# EAGLE library part TRACE_CONNECTOR (library WSNlib)
Trace Connector for Cortex-M3
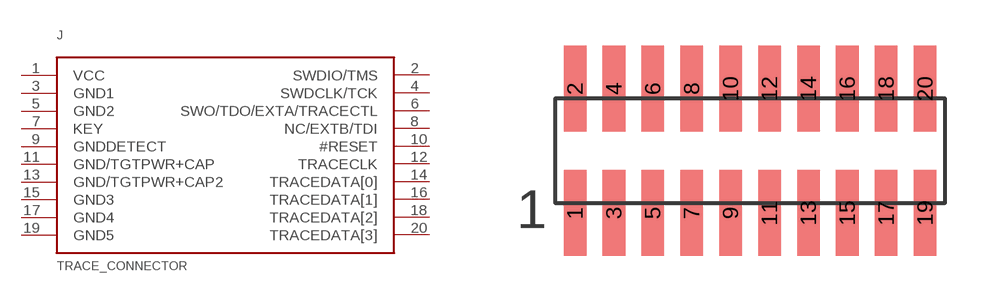
[diagram p3: symbol with the pads of FTSH-110-01-L-DV; footprint FTSH-110-01-L-DV]

Designator prefix J

## TRACE_CONNECTOROFFICIAL  [FTSH-110-01-L-DV]
1  VCC
2  SWDIO/TMS
3  GND1
4  SWDCLK/TCK
5  GND2
6  SWO/TDO/EXTA/TRACECTL
7  KEY
8  NC/EXTB/TDI
9  GNDDETECT
10  #RESET
11  GND/TGTPWR+CAP
12  TRACECLK
13  GND/TGTPWR+CAP2
14  TRACEDATA[0]
15  GND3
16  TRACEDATA[1]
17  GND4
18  TRACEDATA[2]
19  GND5
20  TRACEDATA[3]

## Footprint FTSH-110-01-L-DV (pad centres in mm)
Official Trace connector http://www.samtec.com/documents/webfiles/cpdf/FTSH-1XX-XX-XXX-DV-XXX-FOOTPRINT.pdf
smd 0.737 x 2.794: 1 -5.715,-2.032; 2 -5.715,2.032; 3 -4.445,-2.032; 4 -4.445,2.032; 5 -3.175,-2.032; 6 -3.175,2.032; 7 -1.905,-2.032; 8 -1.905,2.032; 9 -0.635,-2.032; 10 -0.635,2.032; 11 0.635,-2.032; 12 0.635,2.032; 13 1.905,-2.032; 14 1.905,2.032; 15 3.175,-2.032; 16 3.175,2.032; 17 4.445,-2.032; 18 4.445,2.032; 19 5.715,-2.032; 20 5.715,2.032